# Altium schematic symbol library shm_schem_lib.SchLib: 49 symbols (part 1 of 2)
Pins are listed as number, name and electrical type; pins without a type are passive.

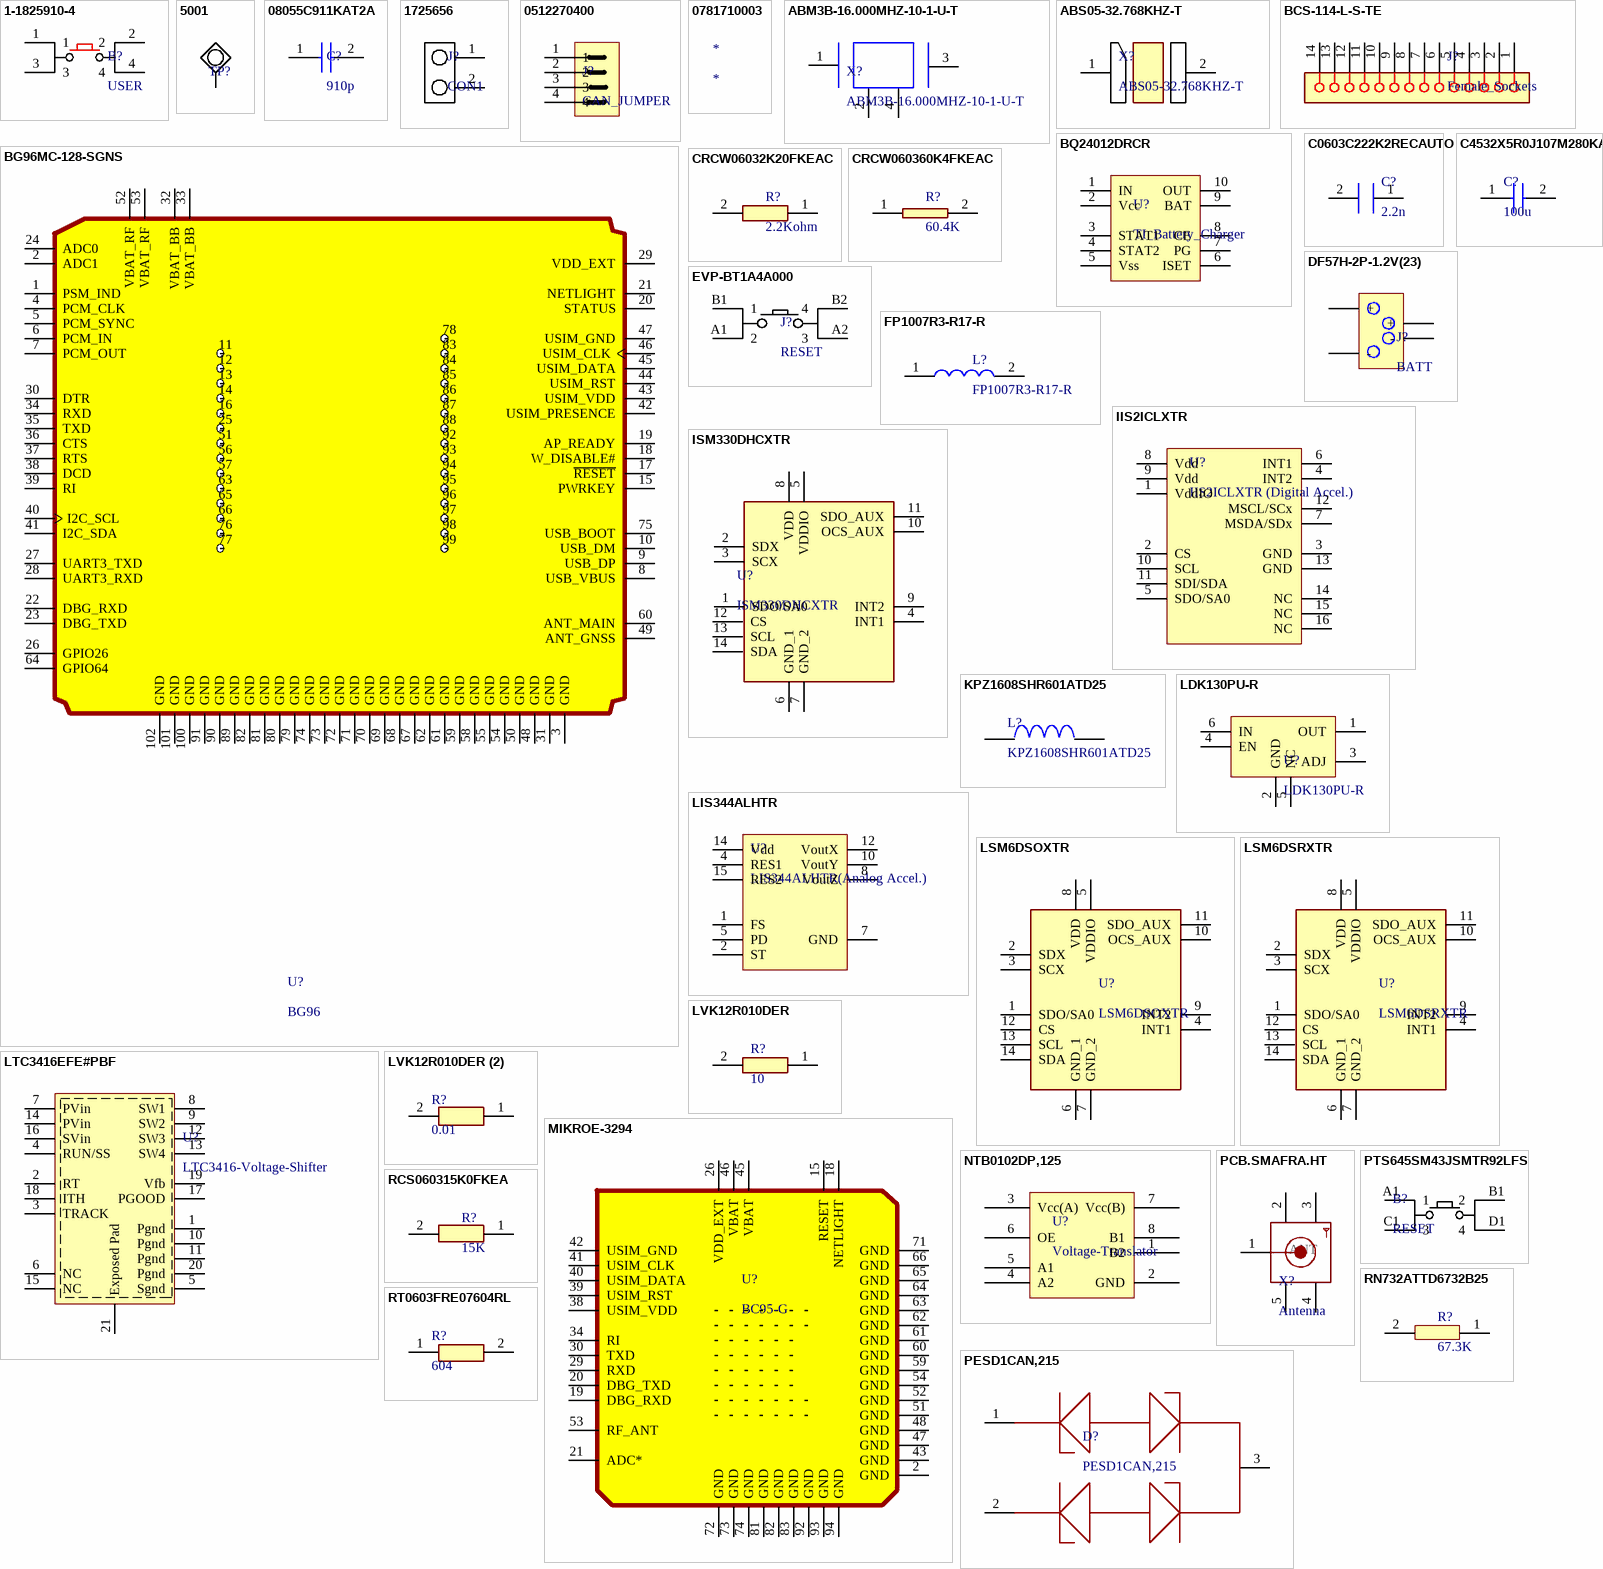
[diagram p0: symbols 1-1825910-4 to RT0603FRE07604RL]

## 1-1825910-4
designator B?, comment USER
Switch Tactile OFF (ON) SPST Round Button PC Pins 0.05A 24VDC 100000Cycle 1.56N Thru-Hole; Manufacturer: TE Connectivity; Manufacturer Part Number: 1-1825910-4; Supplier 1: RSComponents; Supplier Part Number 1: 4791435; RoHS: Yes; Category: Pushbutton Switches; Stock 1: 10560; RoHS Compliant: Yes
footprint 118259104
pins: 1, 2, 3, 4

## 5001
designator TP?, comment Test Point  (value not drawn)
TEST POINT PC MINI .040D BLACK; Manufacturer: Keystone Electronics; Manufacturer Part Number: 5001; Plating: Silver; Body Material: Bronze; Number of Contacts: 1; Insulation: Insulated; Inside Diameter: 1.27mm; Outside Diameter: 2.54mm; Hole Diameter: 1.6mm; Supplier 1: Digi-Key; Supplier Part Number 1: 36-5001-ND; RoHS: Yes; Category: Test Probes, Leads and Clips; Stock 1: 647250; Mount: Through Hole; Contact Material: Bronze; Contact Plating: Silver,Tin; Color: Black; Material: Nylon,Bronze,Silver; Housing Color: Black; Insulation Material: Nylon; Package Quantity: 100; Packaging: Bulk; Termination: Through Hole; Series: THM; Number of Ports: 1; Orientation: Straight; Diameter: 2.54mm; Length: 7.62mm; Height: 0.3inch; RoHS Compliant: Yes; REACH SVHC: No SVHC; Lead Free: Lead Free; Flammability Rating: UL94 V-0; ComponentLink1URL: https://datasheet.ciiva.com/27052/1581986-27052611.pdf?src-supplier=Jameco; ComponentLink1Description: https://datasheet.ciiva.com/27052/1581986-27052611.pdf?src-supplier=Jameco; ComponentLink2URL: https://datasheet.ciiva.com/11836/0900766b8009b7c7-11836045.pdf?src-supplier=RSComponents; ComponentLink2Description: https://datasheet.ciiva.com/11836/0900766b8009b7c7-11836045.pdf?src-supplier=RSComponents; ComponentLink3URL: https://datasheet.ciiva.com/16318/m60-2p60-16318423.pdf?src-supplier=Future+Electronics; ComponentLink3Description: https://datasheet.ciiva.com/16318/m60-2p60-16318423.pdf?src-supplier=Future+Electronics; ComponentLink4URL: https://datasheet.ciiva.com/22631/1703983-22631100.pdf?src-supplier=Element14; ComponentLink4Description: https://datasheet.ciiva.com/22631/1703983-22631100.pdf?src-supplier=Element14
footprint KEYSTONE_5001
pins: 1

## 08055C911KAT2A
designator C?, comment 910p
Cap Ceramic 910pF 50V X7R 10% SMD 0805 125°C T/R; Manufacturer: Kyocera AVX; Manufacturer Part Number: 08055C911KAT2A; Supplier 1: Mouser; Supplier Part Number 1: 581-08055C911KAT2A; RoHS: Yes; Category: Ceramic Capacitors; Stock 1: 8767; Mount: Surface Mount; Case/Package: 0805; Number of Pins: 2; Case Code (Metric): 2012; Case Code (Imperial): 0805; Min Operating Temperature: -55°C; Max Operating Temperature: 125°C; Package Quantity: 12000; Capacitance: 910pF; Voltage Rating: 50V; Tolerance: 10%; Packaging: Tape and Reel; Termination: SMD/SMT; Voltage Rating (DC): 50V; Dielectric: X7R; Length: 0.079inch; Width: 0.049inch; Thickness: 0.037inch; Depth: 1.25mm; ComponentLink1URL: https://datasheet.ciiva.com/204/cx7r-204753.pdf?src-supplier=Digi-Key; ComponentLink1Description: https://datasheet.ciiva.com/204/cx7r-204753.pdf?src-supplier=Digi-Key; ComponentLink2URL: https://datasheet.ciiva.com/13190/cx7r-13190460.pdf?src-supplier=Mouser; ComponentLink2Description: https://datasheet.ciiva.com/13190/cx7r-13190460.pdf?src-supplier=Mouser
pins: 1 18, 2 19

## 1725656
designator J?, comment CON1
间距2.54mm 2pin 6A 160V  螺钉式 直插 配线26-20AWG(0.14-0.5)mm²; Manufacturer: Phoenix Contact; Manufacturer Part Number: 1725656; Number of Poles: 2; Voltage Rating: 125V; Max Supply Voltage: 63V; Number of Levels: 1; Connector Type: Screw,PCB,Terminal Block; Wire Gauge (Max): 26AWG; Wire Gauge (Min): 20AWG; Pitch: 2.54mm; Stripping Length: 4.5mm; Approvals: UL,CSA,cULus,EAC; Supplier 1: RSComponents; Supplier Part Number 1: 2204260; RoHS: Yes; Category: Terminal Blocks; Stock 1: 7470; Mount: Through Hole; Number of Pins: 2; Color: Green; Weight: 0.022575oz; Housing Color: Green; Housing Material: Polyamide; Insulation Material: Nylon; Contact Material: Tin; Package Quantity: 50; Packaging: Bulk; Max Current Rating: 6A; Number of Rows: 1; Current Rating: 6A; Number of Positions Per Level: 2; Current: 6A; Voltage: 125V; Termination: Solder; Number of Positions: 2; Number of Contacts: 2; Number of Circuits: 2; Orientation: Straight; Series: MPT; Length: 5.54mm; Width: 12mm; Height: 6.2mm; Wire/Cable Gauge: 26AWG; Depth: 6.2mm; Radiation Hardening: No; REACH SVHC: No SVHC; Lead Free: Lead Free; Flammability Rating: UL94 V-0; RoHS Compliant: Yes; ComponentLink1URL: https://datasheet.ciiva.com/16071/1725656-16071846.pdf?src-supplier=Onlinecomponents.com; ComponentLink1Description: https://datasheet.ciiva.com/16071/1725656-16071846.pdf?src-supplier=Onlinecomponents.com; ComponentLink2URL: https://datasheet.ciiva.com/15169/getdatasheetpartid-199323-15169849.pdf?src-supplier=Verical; ComponentLink2Description: https://datasheet.ciiva.com/15169/getdatasheetpartid-199323-15169849.pdf?src-supplier=Verical; ComponentLink3URL: https://datasheet.ciiva.com/823/1725656-823793.pdf?src-supplier=Digi-Key; ComponentLink3Description: https://datasheet.ciiva.com/823/1725656-823793.pdf?src-supplier=Digi-Key; ComponentLink4URL: https://datasheet.ciiva.com/1120/319957-1120510.pdf?src-supplier=Farnell; ComponentLink4Description: https://datasheet.ciiva.com/1120/319957-1120510.pdf?src-supplier=Farnell; ComponentLink5URL: https://datasheet.ciiva.com/26340/788052-da-01-en-100ntklemme-1725656-250-st-26340907.pdf?src-supplier=Conrad; ComponentLink5Description: https://datasheet.ciiva.com/26340/788052-da-01-en-100ntklemme-1725656-250-st-26340907.pdf?src-supplier=Conrad
footprint 1725656
pins: 1, 2

## 0512270400
designator J?, comment CAN_JUMPER
2.00mm Pitch MicroTPA Wire-to-Wire Plug Housing, Positive Lock, 4 Circuits, Natural; Manufacturer: Molex; Manufacturer Part Number: 0512270400; Number of Positions: 4; Pitch: 2mm; Supplier 1: Digi-Key; Supplier Part Number 1: WM12240-ND; RoHS: Yes; Category: Headers and Wire Housings; Stock 1: 30068; Mount: Free Hanging; Housing Material: Polybutylene; Color: Natural; Housing Color: Natural; Min Operating Temperature: -25°C; Max Operating Temperature: 85°C; Packaging: Bulk; Number of Rows: 1; Package Quantity: 1000; Termination: Crimp; Orientation: Straight; Series: 51227; Fastening Type: Latch; Connector Type: Plug; Contact Type: Male Pin; Length: 10.4mm; Depth: 17.6mm; RoHS Compliant: Yes; ComponentLink1URL: https://datasheet.ciiva.com/2942/512270200-sd-2942889.pdf?src-supplier=Digi-Key; ComponentLink1Description: https://datasheet.ciiva.com/2942/512270200-sd-2942889.pdf?src-supplier=Digi-Key; ComponentLink2URL: https://datasheet.ciiva.com/10402/0512270400-crimp-housings-10402140.pdf?src-supplier=Avnet; ComponentLink2Description: https://datasheet.ciiva.com/10402/0512270400-crimp-housings-10402140.pdf?src-supplier=Avnet
pins: 1, 2, 3, 4

## 0781710003
designator *
Pico-EZmate Wire-to-Board Header Vertical Housing Height 1.55mm with Side Friction Locks 3 Circuits; Manufacturer: Molex; Manufacturer Part Number: 0781710003; Contact Resistance: 20mR; Number of Positions: 3; Max Voltage Rating (AC): 50V; Connector Type: Plug; Pitch: 0.047inch; Supplier 1: RSComponents; Supplier Part Number 1: 7000824; RoHS: Yes; Category: Headers and Wire Housings; Stock 1: 430; Mount: Surface Mount; Contact Plating: Gold; Contact Material: Copper Alloy; Housing Color: Black; Housing Material: Polymer; Color: Black; Min Operating Temperature: -25°C; Max Operating Temperature: 85°C; Number of Rows: 1; Packaging: Tape and Reel; Termination: Solder; Number of Contacts: 3; Max Voltage Rating (DC): 50V; Orientation: Straight; Series: Pico-EZmate™ 78171; Fastening Type: Friction; Contact Type: Tab; Length: 5.4mm; Depth: 4.5mm; RoHS Compliant: Yes; ComponentLink1URL: https://datasheet.ciiva.com/738/781710004-sd-738385.pdf?src-supplier=Digi-Key; ComponentLink1Description: https://datasheet.ciiva.com/738/781710004-sd-738385.pdf?src-supplier=Digi-Key; ComponentLink2URL: https://datasheet.ciiva.com/740/781710003-sd-740737.pdf?src-supplier=Digi-Key; ComponentLink2Description: https://datasheet.ciiva.com/740/781710003-sd-740737.pdf?src-supplier=Digi-Key; ComponentLink3URL: https://datasheet.ciiva.com/740/781710003-sd-740739.pdf?src-supplier=Digi-Key; ComponentLink3Description: https://datasheet.ciiva.com/740/781710003-sd-740739.pdf?src-supplier=Digi-Key

## ABM3B-16.000MHZ-10-1-U-T
designator X?
Crystal, Ceramic, 16.000Mhz, 10Pf, 10Ppm-10+60C, 5 X 3.2 X 1 Rohs Compliant: Yes; Manufacturer: Abracon; Frequency: 16MHz; ESR (Equivalent Series Resistance): 50R; Tolerance: 10ppm; Supplier 1: Digi-Key; Supplier Part Number 1: 300-8206-1-ND; Manufacturer Part Number: ABM3B-16.000MHZ-10-1-U-T; RoHS: Yes; Category: Crystals; Mount: Surface Mount; Case/Package: CSMD; Number of Pins: 4; Min Operating Temperature: -10°C; Max Operating Temperature: 60°C; Load Capacitance: 10pF; Package Quantity: 1000; Packaging: Tape and Reel; Frequency Tolerance: 10ppm; Frequency Stability: 10ppm; Termination: SMD/SMT; Resistor Type: Ceramic; Series Resistance: 50R; Length: 5mm; Width: 3.2mm; Height: 0.043inch; Depth: 3.2mm; REACH SVHC: No SVHC; Lead Free: Lead Free; ComponentLink1URL: https://datasheet.ciiva.com/15116/getdatasheetpartid-724423-15116862.pdf?src-supplier=Verical; ComponentLink1Description: https://datasheet.ciiva.com/15116/getdatasheetpartid-724423-15116862.pdf?src-supplier=Verical; ComponentLink2URL: https://datasheet.ciiva.com/16366/abm3b-16366326.pdf?src-supplier=Future+Electronics; ComponentLink2Description: https://datasheet.ciiva.com/16366/abm3b-16366326.pdf?src-supplier=Future+Electronics; ComponentLink3URL: https://datasheet.ciiva.com/862/abm3b-862456.pdf?src-supplier=Digi-Key; ComponentLink3Description: https://datasheet.ciiva.com/862/abm3b-862456.pdf?src-supplier=Digi-Key; ComponentLink4URL: https://datasheet.ciiva.com/3175/abm3b-3175821.pdf?src-supplier=Avnet; ComponentLink4Description: https://datasheet.ciiva.com/3175/abm3b-3175821.pdf?src-supplier=Avnet; ComponentLink5URL: https://datasheet.ciiva.com/862/abm3b-862455.pdf?src-supplier=Digi-Key; ComponentLink5Description: https://datasheet.ciiva.com/862/abm3b-862455.pdf?src-supplier=Digi-Key; ComponentLink6URL: https://datasheet.ciiva.com/862/abm3b-862457.pdf?src-supplier=Digi-Key; ComponentLink6Description: https://datasheet.ciiva.com/862/abm3b-862457.pdf?src-supplier=Digi-Key
pins: 1, 2, 3, 4

## ABS05-32.768KHZ-T
designator X?
ABRACON - ABS05-32.768KHZ-T - Crystal, 32.768 kHz, SMD, 1.6mm x 1mm, 12.5 pF, 20 ppm, ABS05 Series; Frequency Tolerance: 20ppm; Load Capacitance: 12.5pF; ESR (Equivalent Series Resistance): 90kR; Supplier 1: Digi-Key; Supplier Part Number 1: 535-11899-1-ND; Manufacturer: Abracon; Manufacturer Part Number: ABS05-32.768KHZ-T; RoHS: Yes; Category: Crystals; Stock 1: 333; Mount: Surface Mount; Case/Package: SMD/SMT; Number of Pins: 2; Min Operating Temperature: -40°C; Max Operating Temperature: 85°C; Packaging: Tape and Reel; Package Quantity: 3000; Frequency: 32.768kHz; Tolerance: 20ppm; Termination: SMD/SMT; Series Resistance: 90kR; Series: ABS05; Operating Frequency: 32.768 kHz; Length: 1.6mm; Width: 0.039inch; Height: 0.02inch; Depth: 1mm; Radiation Hardening: No; REACH SVHC: No SVHC; Lead Free: Lead Free; RoHS Compliant: Yes; ComponentLink1URL: https://datasheet.ciiva.com/23810/abs05-23810480.pdf?src-supplier=Newark; ComponentLink1Description: https://datasheet.ciiva.com/23810/abs05-23810480.pdf?src-supplier=Newark; ComponentLink2URL: https://datasheet.ciiva.com/6728/abs05-6728949.pdf?src-supplier=Digi-Key; ComponentLink2Description: https://datasheet.ciiva.com/6728/abs05-6728949.pdf?src-supplier=Digi-Key; ComponentLink3URL: https://datasheet.ciiva.com/6728/abs05-6728950.pdf?src-supplier=Digi-Key; ComponentLink3Description: https://datasheet.ciiva.com/6728/abs05-6728950.pdf?src-supplier=Digi-Key; ComponentLink4URL: https://datasheet.ciiva.com/16411/abs05-16411149.pdf?src-supplier=Future+Electronics; ComponentLink4Description: https://datasheet.ciiva.com/16411/abs05-16411149.pdf?src-supplier=Future+Electronics
footprint ABS0532768KHZT
pins: 1 In, 2 OUT

## BCS-114-L-S-TE
designator J?, comment Female_Sockets
Conn Socket Strip SKT 14 POS 2.54mm Solder ST Top Entry Thru-Hole TIGER CLAW™ Tube; Manufacturer: Samtec; Manufacturer Part Number: BCS-114-L-S-TE; Contact Resistance: 10mR; Max Current Rating: 5.9A; Voltage Rating: 475V; Connector Type: Receptacle; Number of Positions: 14; Supplier 1: RSComponents; Supplier Part Number 1: 7666525; RoHS: Yes; Category: Connectors; Stock 1: 1; Mount: Through Hole; Contact Material: Bronze; Contact Plating: Gold; Color: Black; Housing Color: Black; Housing Material: Polymer; Min Operating Temperature: -55°C; Max Operating Temperature: 125°C; Number of Rows: 1; Packaging: Bulk; Package Quantity: 1; Termination: Solder; Max Voltage Rating (AC): 475V; Number of Contacts: 14; Gender: Receptacle; Orientation: Vertical; Series: Tiger Claw™ BCS; Length: 35.56mm; Pitch: 2.54mm; Depth: 2.54mm; Radiation Hardening: No; REACH SVHC: No SVHC; Lead Free: Lead Free; RoHS Compliant: Yes; ComponentLink1URL: https://datasheet.ciiva.com/25617/0900766b8115c15c-25617469.pdf?src-supplier=RSComponents; ComponentLink1Description: https://datasheet.ciiva.com/25617/0900766b8115c15c-25617469.pdf?src-supplier=RSComponents; ComponentLink2URL: https://datasheet.ciiva.com/413/bcs-1xx-xxx-x-xx-xxx-mkt-413700.pdf?src-supplier=Digi-Key; ComponentLink2Description: https://datasheet.ciiva.com/413/bcs-1xx-xxx-x-xx-xxx-mkt-413700.pdf?src-supplier=Digi-Key; ComponentLink3URL: https://datasheet.ciiva.com/10044/bcs-10044566.pdf?src-supplier=Avnet; ComponentLink3Description: https://datasheet.ciiva.com/10044/bcs-10044566.pdf?src-supplier=Avnet; ComponentLink4URL: https://datasheet.ciiva.com/7997/81213-7997401.pdf?src-supplier=Element14; ComponentLink4Description: https://datasheet.ciiva.com/7997/81213-7997401.pdf?src-supplier=Element14
footprint SAMTEC-BCS-114-X-S-TE
pins: 1, 2, 3, 4, 5, 6, 7, 8, 9, 10, 11, 12, 13, 14

## BG96MC-128-SGNS
designator U?, comment BG96
LTE Cat M1 Module 1900MHz 3.8V 102-Pin LGA Bag; Manufacturer: Quectel; Manufacturer Part Number: BG96MC-128-SGNS; Supplier 1: Mouser; Supplier Part Number 1: 277-BG96MC-128-SGNS
footprint XCVR_BG96
pins: 1 PSM_IND, 2 ADC1, 3 GND, 4 PCM_CLK, 5 PCM_SYNC, 6 PCM_IN, 7 PCM_OUT, 8 USB_VBUS, 9 USB_DP, 10 USB_DM, 11 RESERVED, 12 RESERVED, 13 RESERVED, 14 RESERVED, 15 PWRKEY, 16 RESERVED, 17 ~{RESET}, 18 W_DISABLE#, 19 AP_READY, 20 STATUS, 21 NETLIGHT, 22 DBG_RXD, 23 DBG_TXD, 24 ADC0, 25 RESERVED, 26 GPIO26, 27 UART3_TXD, 28 UART3_RXD, 29 VDD_EXT, 30 DTR, 31 GND, 32 VBAT_BB, 33 VBAT_BB, 34 RXD, 35 TXD, 36 CTS, 37 RTS, 38 DCD, 39 RI, 40 I2C_SCL, 41 I2C_SDA, 42 USIM_PRESENCE, 43 USIM_VDD, 44 USIM_RST, 45 USIM_DATA, 46 USIM_CLK, 47 USIM_GND, 48 GND, 49 ANT_GNSS, 50 GND, 51 RESERVED, 52 VBAT_RF, 53 VBAT_RF, 54 GND, 55 GND, 56 RESERVED, 57 RESERVED, 58 GND, 59 GND, 60 ANT_MAIN, 61 GND, 62 GND, 63 RESERVED, 64 GPIO64, 65 RESERVED, 66 RESERVED, 67 GND, 68 GND, 69 GND, 70 GND, 71 GND, 72 GND, 73 GND, 74 GND, 75 USB_BOOT, 76 RESERVED, 77 RESERVED, 78 RESERVED, 79 GND, 80 GND, 81 GND, 82 GND, 83 RESERVED, 84 RESERVED, 85 RESERVED, 86 RESERVED, 87 RESERVED, 88 RESERVED, 89 GND, 90 GND, 91 GND, 92 RESERVED, 93 RESERVED, 94 RESERVED, 95 RESERVED, 96 RESERVED, 97 RESERVED, 98 RESERVED, 99 RESERVED, 100 GND, 101 GND, 102 GND

## BQ24012DRCR
designator U?, comment TI_Battery_Charger
1-cell, 1-A, linear Li-ion battery charger w/ FET, AC present & charge enable in QFN-12 10-VSON -40 to 85; Manufacturer: Texas Instruments; Manufacturer Part Number: BQ24012DRCR; Output Voltage: 4.2V; Output Current: 1A; Min Supply Voltage: 3V; Max Supply Voltage: 16.5V; Number of Cells: 1; Supplier 1: Digi-Key; Supplier Part Number 1: 296-13715-1-ND; RoHS: Yes; Category: power; Stock 1: 1348; Number of Pins: 10; Weight: 0.000885oz; Contact Plating: Gold; Min Operating Temperature: -40°C; Max Operating Temperature: 125°C; Packaging: Tape and Reel; Package Quantity: 3000; Min Input Voltage: 3V; Max Output Current: 1A; Max Charge Current: 1A; Length: 3mm; Width: 3mm; Height: 0.9mm; Radiation Hardening: No; Lead Free: Lead Free; RoHS Compliant: Yes; REACH SVHC: No SVHC; ComponentLink1URL: https://datasheet.ciiva.com/3213/bq24018-3213937.pdf?src-supplier=Avnet; ComponentLink1Description: https://datasheet.ciiva.com/3213/bq24018-3213937.pdf?src-supplier=Avnet; ComponentLink2URL: https://datasheet.ciiva.com/15114/getdatasheetpartid-256151-15114566.pdf?src-supplier=Verical; ComponentLink2Description: https://datasheet.ciiva.com/15114/getdatasheetpartid-256151-15114566.pdf?src-supplier=Verical; ComponentLink3URL: https://datasheet.ciiva.com/26875/bq24012drcr-26875237.pdf?src-supplier=IIIC; ComponentLink3Description: https://datasheet.ciiva.com/26875/bq24012drcr-26875237.pdf?src-supplier=IIIC; ComponentLink4URL: https://datasheet.ciiva.com/22642/1862453-22642958.pdf?src-supplier=Element14; ComponentLink4Description: https://datasheet.ciiva.com/22642/1862453-22642958.pdf?src-supplier=Element14; ComponentLink5URL: https://datasheet.ciiva.com/1932/bq24014-1932389.pdf?src-supplier=Digi-Key; ComponentLink5Description: https://datasheet.ciiva.com/1932/bq24014-1932389.pdf?src-supplier=Digi-Key; ComponentLink6URL: https://datasheet.ciiva.com/1932/bq24014-1932388.pdf?src-supplier=Digi-Key; ComponentLink6Description: https://datasheet.ciiva.com/1932/bq24014-1932388.pdf?src-supplier=Digi-Key; ComponentLink7URL: https://datasheet.ciiva.com/1932/bq24014-1932390.pdf?src-supplier=Digi-Key; ComponentLink7Description: https://datasheet.ciiva.com/1932/bq24014-1932390.pdf?src-supplier=Digi-Key; ComponentLink8URL: https://datasheet.ciiva.com/26250/bq24012-26250366.pdf?src-supplier=Avnet+Europe; ComponentLink8Description: https://datasheet.ciiva.com/26250/bq24012-26250366.pdf?src-supplier=Avnet+Europe; category: Battery
pins: 1 IN, 2 Vcc, 3 STAT1, 4 STAT2, 5 Vss, 6 ISET, 7 PG, 8 CE, 9 BAT, 10 OUT

## C0603C222K2RECAUTO
designator C?, comment 2.2n
Cap Cer 0603 2.2nF 200V X7R 4K 7" Reel; Manufacturer: KEMET; Manufacturer Part Number: C0603C222K2RECAUTO; Supplier 1: Mouser; Supplier Part Number 1: 80-C0603C222K2REAUTO; RoHS: Yes; Category: Ceramic Capacitors; Stock 1: 16227; RoHS Compliant: Yes
pins: 1, 2 51

## C4532X5R0J107M280KA
designator C?, comment 100u
TDK         C4532X5R0J107M280KA             SMD Multilayer Ceramic Capacitor, 1812 [4532 Metric], 100 F, 6.3 V,  20%, X5R, C Series; Capacitance: 100uF; Voltage Rating: 6.3V; Supplier 1: RSComponents; Supplier Part Number 1: 7416783; Manufacturer: TDK; Manufacturer Part Number: C4532X5R0J107M280KA; RoHS: Yes; Category: Ceramic Capacitors; Stock 1: 4; Mount: Surface Mount; Case/Package: 1812; Number of Pins: 2; Case Code (Metric): 4532; Case Code (Imperial): 1812; Weight: 0.000952oz; Dielectric Material: Ceramic; Min Operating Temperature: -55°C; Max Operating Temperature: 85°C; Tolerance: 20%; Packaging: Tape and Reel; Package Quantity: 1; Voltage Rating (DC): 6.3V; Dielectric: X5R; Termination: SMD/SMT; Series: C; Resistor Type: Ceramic; Voltage: 6.3V; Length: 4.5mm; Width: 0.126inch; Height: 2.8mm; Depth: 3.2mm; Thickness: 0.122inch; Radiation Hardening: No; REACH SVHC: No SVHC; Lead Free: Lead Free; RoHS Compliant: Yes; ComponentLink1URL: https://datasheet.ciiva.com/11788/0900766b80c1bb00-11788289.pdf?src-supplier=RSComponents; ComponentLink1Description: https://datasheet.ciiva.com/11788/0900766b80c1bb00-11788289.pdf?src-supplier=RSComponents; ComponentLink2URL: https://datasheet.ciiva.com/24216/c4532x5r0j107m280ka-265668-24216530.pdf?src-supplier=Mouser; ComponentLink2Description: https://datasheet.ciiva.com/24216/c4532x5r0j107m280ka-265668-24216530.pdf?src-supplier=Mouser; ComponentLink3URL: https://datasheet.ciiva.com/6283/tdkmlcccaprange-6283834.pdf?src-supplier=Digi-Key; ComponentLink3Description: https://datasheet.ciiva.com/6283/tdkmlcccaprange-6283834.pdf?src-supplier=Digi-Key; ComponentLink4URL: https://datasheet.ciiva.com/16397/e412-c-16397098.pdf?src-supplier=Future+Electronics; ComponentLink4Description: https://datasheet.ciiva.com/16397/e412-c-16397098.pdf?src-supplier=Future+Electronics; ComponentLink5URL: https://datasheet.ciiva.com/6283/tdkmlcccaprange-6283837.pdf?src-supplier=Digi-Key; ComponentLink5Description: https://datasheet.ciiva.com/6283/tdkmlcccaprange-6283837.pdf?src-supplier=Digi-Key
pins: 1, 2

## CRCW06032K20FKEAC
designator R?, comment 2.2Kohm
Res Thick Film 0603 2.2K Ohm 1% 1/10W ±100ppm/°C Molded SMD Paper T/R; Manufacturer: Vishay Semiconductors; Manufacturer Part Number: CRCW06032K20FKEAC; Resistance: 2.2kR; Power Rating: 100mW; Supplier 1: Digi-Key; Supplier Part Number 1: 541-4022-1-ND; RoHS: Yes; Category: Chip SMD Resistors; Stock 1: 299; Mount: Surface Mount; Case/Package: Molded; Contact Plating: Tin; Min Operating Temperature: -55°C; Max Operating Temperature: 155°C; Resistor Type: Thick Film; Termination: Wraparound; Tolerance: 1%; Temperature Coefficient: 100ppm/°C; Length: 1.55mm; Lead Free: Lead Free; RoHS Compliant: Yes; ComponentLink1URL: http://www.vishay.com/docs/28773/crcwce3.pdf?src-supplier=Digi-Key; ComponentLink1Description: http://www.vishay.com/docs/28773/crcwce3.pdf?src-supplier=Digi-Key; ComponentLink2URL: https://www.vishay.com/docs/28773/crcwce3.pdf?src-supplier=Digi-Key; ComponentLink2Description: https://www.vishay.com/docs/28773/crcwce3.pdf?src-supplier=Digi-Key; ComponentLink3URL: http://www.vishay.com/docs/20035/dcrcwe3.pdf?src-supplier=Avnet+Asia; ComponentLink3Description: http://www.vishay.com/docs/20035/dcrcwe3.pdf?src-supplier=Avnet+Asia
pins: 1, 2

## CRCW060360K4FKEAC
designator R?, comment 60.4K
Res Thick Film 0603 60.4K Ohm 1% 1/10W ±100ppm/°C Molded SMD Paper T/R; Manufacturer: Vishay; Manufacturer Part Number: CRCW060360K4FKEAC; Power Rating: 100mW; Resistance: 60.4kR; Supplier 1: Digi-Key; Supplier Part Number 1: 541-5506-1-ND; Category: Chip SMD Resistors; Stock 1: 86964; Case/Package: 0603; Tolerance: 1%; Lead Free: Lead Free
pins: 1, 2

## DF57H-2P-1.2V(23)
designator J?, comment BATT
[SnapBee™]Low Profile Swing-Lock Bd.-to-Wire for Power (UL/CSA Certified), 2.5 A, -35 to 85 ℃, RoHS; Manufacturer: Hirose; Manufacturer Part Number: DF57H-2P-1.2V(23); Number of Positions: 2; Voltage Rating: 50V; Connector Type: Blade Pin; Pitch: 0.047inch; Supplier 1: Mouser; Supplier Part Number 1: 798-DF57H2P12V23; RoHS: Yes; Category: Connectors; Stock 1: 1840; Mount: Surface Mount; Color: Natural; Contact Plating: Tin; Contact Material: Brass; Housing Material: Polymer; Termination: Solder; Number of Rows: 1; Packaging: Tape and Reel; Package Quantity: 5000; ComponentLink1URL: https://datasheet.ciiva.com/24241/ed-df57-20140821-464274-24241577.pdf?src-supplier=Mouser; ComponentLink1Description: https://datasheet.ciiva.com/24241/ed-df57-20140821-464274-24241577.pdf?src-supplier=Mouser
footprint BATT
footprint DF57H2P12V23
pins: 1 +, 2 -, MP1 +, MP2 -

## EVP-BT1A4A000
designator J?, comment RESET
Tactile Switch, SPST, 6.5 x 6.0 x 4.3mm, Black, 0.5N, Straight, EVPBT Series; Manufacturer: Panasonic; Manufacturer Part Number: EVP-BT1A4A000; Supplier 1: Digi-Key; Supplier Part Number 1: 10-EVP-BT1A4A000CT-ND; Stock 1: 1823; ComponentLink1URL: https://datasheet.octopart.com/EVP-BT1A4A000-Panasonic-datasheet-150874611.pdf?src-supplier=Allied+Electronics; ComponentLink1Description: https://datasheet.octopart.com/EVP-BT1A4A000-Panasonic-datasheet-150874611.pdf?src-supplier=Allied+Electronics; ComponentLink2URL: https://datasheet.octopart.com/EVP-BT1A4A000-Panasonic-datasheet-106547821.pdf?src-supplier=Future+Electronics; ComponentLink2Description: https://datasheet.octopart.com/EVP-BT1A4A000-Panasonic-datasheet-106547821.pdf?src-supplier=Future+Electronics
footprint EVPBT1A4A000
pins: A1 2, A2 3, B1 1, B2 4

## FP1007R3-R17-R
designator L?
General Purpose Inductor, 0.17uH, 10%, 1 Element, Ferrite-Core, SMD, 4131; Manufacturer: Eaton Bussmann; Current Rating: 61A; Saturation Current: 66A; Shielding: Unshielded; Inductance: 170nH; DC Resistance (DCR): 0.29mR; Test Frequency: 100kHz; Self Resonant Frequency: 2MHz; Supplier 1: Digi-Key; Supplier Part Number 1: 513-1684-1-ND; Manufacturer Part Number: FP1007R3-R17-R; RoHS: Yes; Category: Fixed Inductors; Stock 1: 16517; Mount: Surface Mount; Case/Package: 1007; Core Material: Ferrite; Weight: 0.070548oz; Min Operating Temperature: -40°C; Max Operating Temperature: 125°C; Tolerance: 10%; Packaging: Tape and Reel; Package Quantity: 650; Max DC Current: 61A; Termination: SMD/SMT; Length: 10.2mm; Width: 7.8mm; Height: 7.3mm; Depth: 8mm; Radiation Hardening: No; Military Standard: Not; Lead Free: Lead Free; ComponentLink1URL: https://datasheet.ciiva.com/25630/0900766b8116a2db-25630987.pdf?src-supplier=RSComponents; ComponentLink1Description: https://datasheet.ciiva.com/25630/0900766b8116a2db-25630987.pdf?src-supplier=RSComponents; ComponentLink2URL: https://datasheet.ciiva.com/26858/getdatasheetpartid-711055-26858509.pdf?src-supplier=Verical; ComponentLink2Description: https://datasheet.ciiva.com/26858/getdatasheetpartid-711055-26858509.pdf?src-supplier=Verical; ComponentLink3URL: https://datasheet.ciiva.com/16439/79793630-1b1e-49f8-a6d0-ea9b2be9f2e4-16439083.pdf?src-supplier=Future+Electronics; ComponentLink3Description: https://datasheet.ciiva.com/16439/79793630-1b1e-49f8-a6d0-ea9b2be9f2e4-16439083.pdf?src-supplier=Future+Electronics
pins: 1, 2

## IIS2ICLXTR
designator U?, comment IIS2ICLXTR (Digital Accel.)
High-accuracy, high-resolution, low-power, 2- axis digital inclinometer; Manufacturer: STMicroelectronics; Supplier 1: Digi-Key; Supplier Part Number 1: 497-IIS2ICLXCT-ND; Manufacturer Part Number: IIS2ICLXTR; RoHS: Yes; Category: Accelerometers; Stock 1: 25
pins: 1 VddIO, 2 CS, 3 GND, 4 INT2, 5 SDO/SA0, 6 INT1, 7 MSDA/SDx, 8 Vdd, 9 Vdd, 10 SCL, 11 SDI/SDA, 12 MSCL/SCx "Two modes of device", 13 GND, 14 NC, 15 NC, 16 NC

## ISM330DHCXTR
designator U?
iNEMO inertial Sensor include 3D accelerometer & 3D gyroscope; LGA-14L package; Manufacturer: STMicroelectronics; Supplier 1: Digi-Key; Supplier Part Number 1: 497-19784-1-ND; Manufacturer Part Number: ISM330DHCXTR; RoHS: Yes; Category: Inertial Measurement Units (IMUs); Stock 1: 9794
footprint LGA-14(2.5X3X0.86)
pins: 1 SDO/SA0, 2 SDX, 3 SCX, 4 INT1, 5 VDDIO, 6 GND_1, 7 GND_2, 8 VDD, 9 INT2, 10 OCS_AUX, 11 SDO_AUX, 12 CS, 13 SCL, 14 SDA

## KPZ1608SHR601ATD25
designator L?
Ferrite Beads Chip 600Ohm 25% 100MHz 1A 0.15Ohm DCR 0603 Automotive T/R; Manufacturer: TDK; Number of Lines: 1; DC Resistance (DCR): 150mR; Supplier 1: Mouser; Supplier Part Number 1: 810-KPZ1608SHR601ATD; Manufacturer Part Number: KPZ1608SHR601ATD25; RoHS: Yes; Category: Ferrite Beads and Chips; Stock 1: 1036; Mount: Surface Mount; Case/Package: 0603; Case Code (Imperial): 0603; Case Code (Metric): 1608; Min Operating Temperature: -55°C; Max Operating Temperature: 150°C; Features: Soft Termination; Packaging: Cut Tape; Max Current Rating: 1A; Ratings: AEC-Q200; RoHS Compliant: Yes; ComponentLink1URL: https://product.tdk.com/info/en/catalog/datasheets/beads_automotive_power_kpz1608-hr_en.pdf?src-supplier=Digi-Key; ComponentLink1Description: https://product.tdk.com/info/en/catalog/datasheets/beads_automotive_power_kpz1608-hr_en.pdf?src-supplier=Digi-Key
pins: 1 1 , 2

## LDK130PU-R
designator U?
Adjustable Positive LDO Regulator, 0.8V Min, 5.1V Max, 0.4V Dropout, PDSO6; Manufacturer: STMicroelectronics; Number of Outputs: 1; Min Input Voltage: 1.9V; Output Current: 300mA; Max Input Voltage: 5.5V; Dropout Voltage: 200mV; Output Voltage: 5.3V; Quiescent Current: 60uA; Min Output Voltage: 800mV; Accuracy: 2%; Operating Supply Current: 70uA; Power Supply Rejection Ratio (PSRR): 55dB; Supplier 1: Mouser; Supplier Part Number 1: 511-LDK130PU-R; Manufacturer Part Number: LDK130PU-R; RoHS: Yes; Category: Voltage Regulators - Linear; Stock 1: 232; Mount: Surface Mount; Case/Package: DFN; Number of Pins: 6; Min Operating Temperature: -40°C; Max Operating Temperature: 125°C; Packaging: Tape and Reel; Max Output Current: 300mA; Package Quantity: 3000; Number of Regulators: 1; Polarity: Positive; Output Voltage Accuracy: 2%; Tolerance: 2%; Output Type: Adjustable; Length: 1.3mm; Width: 1.2mm; Height: 0.45mm; Radiation Hardening: No; REACH SVHC: No SVHC; Lead Free: Lead Free; RoHS Compliant: Yes; ComponentLink1URL: https://datasheet.ciiva.com/30007/dm00076097-30007047.pdf?src-supplier=Avnet; ComponentLink1Description: https://datasheet.ciiva.com/30007/dm00076097-30007047.pdf?src-supplier=Avnet; ComponentLink2URL: https://datasheet.ciiva.com/29568/dm00076097-29568344.pdf?src-supplier=Digi-Key; ComponentLink2Description: https://datasheet.ciiva.com/29568/dm00076097-29568344.pdf?src-supplier=Digi-Key; ComponentLink3URL: https://datasheet.ciiva.com/29568/dm00076097-29568345.pdf?src-supplier=Digi-Key; ComponentLink3Description: https://datasheet.ciiva.com/29568/dm00076097-29568345.pdf?src-supplier=Digi-Key; ComponentLink4URL: https://datasheet.ciiva.com/29568/dm00076097-29568346.pdf?src-supplier=Digi-Key; ComponentLink4Description: https://datasheet.ciiva.com/29568/dm00076097-29568346.pdf?src-supplier=Digi-Key
footprint LDK130PU18R
pins: 1 OUT, 2 GND, 3 ADJ, 4  EN, 5 NC, 6 IN

## LIS344ALHTR
designator U?, comment LIS344ALHTR(Analog Accel.)
3-axis analog accelerometer, ±2 g / ±6 g user selectable full-scale, ultra compact, low power; Manufacturer: STMicroelectronics; Max Supply Voltage: 3.6V; Min Supply Voltage: 2.4V; Nominal Supply Current: 680uA; Bandwidth: 2kHz; Sensitivity: 15000mV/g; Axis: X, Y, Z; Supplier 1: Digi-Key; Manufacturer Part Number: LIS344ALHTR; RoHS: Yes; Stock 1: 153; Mount: Surface Mount; Case/Package: LGA; Number of Pins: 16; Contact Plating: Gold; Min Operating Temperature: -40°C; Max Operating Temperature: 85°C; Packaging: Tape and Reel; Package Quantity: 1; Output Type: Analog; Length: 4.15mm; Width: 4.15mm; Height: 1.33mm; Radiation Hardening: No; Lead Free: Lead Free; ComponentLink1URL: https://datasheet.ciiva.com/12174/cd00182781-85334-12174772.pdf?src-supplier=Mouser; ComponentLink1Description: https://datasheet.ciiva.com/12174/cd00182781-85334-12174772.pdf?src-supplier=Mouser; ComponentLink2URL: https://datasheet.ciiva.com/26928/lis344alhtr-26928753.pdf?src-supplier=IIIC; ComponentLink2Description: https://datasheet.ciiva.com/26928/lis344alhtr-26928753.pdf?src-supplier=IIIC; ComponentLink3URL: https://datasheet.ciiva.com/2809/cd00182781-2809847.pdf?src-supplier=Digi-Key; ComponentLink3Description: https://datasheet.ciiva.com/2809/cd00182781-2809847.pdf?src-supplier=Digi-Key; ComponentLink4URL: https://datasheet.ciiva.com/16372/cd00182781-16372423.pdf?src-supplier=Future+Electronics; ComponentLink4Description: https://datasheet.ciiva.com/16372/cd00182781-16372423.pdf?src-supplier=Future+Electronics; ComponentLink5URL: https://datasheet.ciiva.com/2809/cd00182781-2809848.pdf?src-supplier=Digi-Key; ComponentLink5Description: https://datasheet.ciiva.com/2809/cd00182781-2809848.pdf?src-supplier=Digi-Key; ComponentLink6URL: https://datasheet.ciiva.com/2809/cd00182781-2809849.pdf?src-supplier=Digi-Key; ComponentLink6Description: https://datasheet.ciiva.com/2809/cd00182781-2809849.pdf?src-supplier=Digi-Key; ComponentLink7URL: https://datasheet.ciiva.com/16638/cd00182781-16638187.pdf?src-supplier=Avnet+Europe; ComponentLink7Description: https://datasheet.ciiva.com/16638/cd00182781-16638187.pdf?src-supplier=Avnet+Europe; Supplier Part Number 1: 497-6345-1-ND; Category: Sensors
footprint LGA16R65P4X4_400X400X160
pins: 1 FS, 2 ST, 4 RES1, 5 PD, 7 GND, 8 VoutZ, 10 VoutY, 12 VoutX, 14 Vdd, 15 RES2

## LSM6DSOXTR
designator U?
3D Accelerometer and 3D Gyroscope Module 3-Axis Digital ±2/±4/±8/±16 g 14-Pin LGA T/R; Manufacturer: STMicroelectronics; Supplier 1: Digi-Key; Supplier Part Number 1: 497-18367-1-ND; Manufacturer Part Number: LSM6DSOXTR; RoHS: Yes; Category: Inertial Measurement Units (IMUs); ComponentLink1URL: http://www.farnell.com/datasheets/2736724.pdf?src-supplier=Farnell; ComponentLink1Description: http://www.farnell.com/datasheets/2736724.pdf?src-supplier=Farnell; ComponentLink2URL: http://www.farnell.com/datasheets/2736724.pdf?src-supplier=Newark; ComponentLink2Description: http://www.farnell.com/datasheets/2736724.pdf?src-supplier=Newark; ComponentLink3URL: http://www.farnell.com/datasheets/2736724.pdf?src-supplier=Element14; ComponentLink3Description: http://www.farnell.com/datasheets/2736724.pdf?src-supplier=Element14
footprint LGA-14_1
pins: 1 SDO/SA0, 2 SDX, 3 SCX, 4 INT1, 5 VDDIO, 6 GND_1, 7 GND_2, 8 VDD, 9 INT2, 10 OCS_AUX, 11 SDO_AUX, 12 CS, 13 SCL, 14 SDA

## LSM6DSRXTR
designator U?
3D Accelerometer and 3D Gyroscope Sensor Digital Output 1.8V 14-Pin LGA T/R; Manufacturer: STMicroelectronics; Supplier 1: Digi-Key; Supplier Part Number 1: 497-LSM6DSRXDKR-ND; Manufacturer Part Number: LSM6DSRXTR; RoHS: Yes; Category: Inertial Measurement Units (IMUs)
footprint LGA-14(2.5X3X0.86)
pins: 1 SDO/SA0, 2 SDX, 3 SCX, 4 INT1, 5 VDDIO, 6 GND_1, 7 GND_2, 8 VDD, 9 INT2, 10 OCS_AUX, 11 SDO_AUX, 12 CS, 13 SCL, 14 SDA

## LTC3416EFE#PBF
designator U?, comment LTC3416-Voltage-Shifter
Conv DC-DC 2.25V to 5.5V Synchronous Step Down Single-Out 0.8V to 5V 4A Automotive 20-Pin TSSOP EP; Manufacturer: Analog Devices; Manufacturer Part Number: LTC3416EFE#PBF; Efficiency: 95%; Number of Outputs: 1; Switching Frequency: 4MHz; Synchronous Rectifier: Yes; Min Output Voltage: 800mV; Output Type: Adjustable; Output Configuration: Positive; Supplier 1: Digi-Key; Supplier Part Number 1: LTC3416EFE#PBF-ND; Category: Power; Stock 1: 1587; Mount: Surface Mount; Case/Package: TSSOP; Number of Pins: 20; Min Operating Temperature: -40°C; Max Operating Temperature: 85°C; Min Input Voltage: 2.25V; Max Output Current: 4A; Max Input Voltage: 5.5V; Output Voltage: 5V; Output Current: 4A; Package Quantity: 74; Packaging: Rail/Tube; Max Output Voltage: 5V; Series: -; Length: 6.6mm; Width: 4.5mm; Height: 1.05mm; Radiation Hardening: No; REACH SVHC: No SVHC; Lead Free: Lead Free; RoHS Compliant: Yes; ComponentLink1URL: https://datasheet.ciiva.com/2025/2995-2025099.pdf?src-supplier=Digi-Key; ComponentLink1Description: https://datasheet.ciiva.com/2025/2995-2025099.pdf?src-supplier=Digi-Key; ComponentLink2URL: https://datasheet.ciiva.com/15112/getdatasheetpartid-82273-15112776.pdf?src-supplier=Verical; ComponentLink2Description: https://datasheet.ciiva.com/15112/getdatasheetpartid-82273-15112776.pdf?src-supplier=Verical; ComponentLink3URL: https://datasheet.ciiva.com/26898/ltc3416efe-pbf-26898981.pdf?src-supplier=IIIC; ComponentLink3Description: https://datasheet.ciiva.com/26898/ltc3416efe-pbf-26898981.pdf?src-supplier=IIIC; ComponentLink4URL: https://datasheet.ciiva.com/7312/1727688-7312092.pdf?src-supplier=Newark; ComponentLink4Description: https://datasheet.ciiva.com/7312/1727688-7312092.pdf?src-supplier=Newark; ComponentLink5URL: https://datasheet.octopart.com/LTC3416EFE%23PBF-Analog-Devices-datasheet-17021874.pdf?src-supplier=Linear+Technology; ComponentLink5Description: https://datasheet.octopart.com/LTC3416EFE%23PBF-Analog-Devices-datasheet-17021874.pdf?src-supplier=Linear+Technology; ComponentLink6URL: https://sigma.octopart.com/57693649/technical_drawing/Linear-Technology-LTC3416EFE%23PBF.pdf?src-supplier=Linear+Technology; ComponentLink6Description: https://sigma.octopart.com/57693649/technical_drawing/Linear-Technology-LTC3416EFE%23PBF.pdf?src-supplier=Linear+Technology; ComponentLink7URL: https://datasheet.octopart.com/LTC3416EFE%23PBF-Linear-Technology-datasheet-604372.pdf?src-supplier=Element14; ComponentLink7Description: https://datasheet.octopart.com/LTC3416EFE%23PBF-Linear-Technology-datasheet-604372.pdf?src-supplier=Element14; ComponentLink8URL: https://datasheet.octopart.com/LTC3416EFE%23PBF-Linear-Technology-datasheet-14167519.pdf?src-supplier=IIIC; ComponentLink8Description: https://datasheet.octopart.com/LTC3416EFE%23PBF-Linear-Technology-datasheet-14167519.pdf?src-supplier=IIIC
pins: 1 Pgnd, 2 RT , 3 TRACK, 4 RUN/SS, 5 Sgnd, 6 NC, 7 PVin, 8 SW1, 9 SW2, 10 Pgnd, 11 Pgnd, 12 SW3, 13 SW4, 14 PVin, 15 NC, 16 SVin, 17 PGOOD, 18 ITH, 19 Vfb, 20 Pgnd, 21 Exposed Pad

## LVK12R010DER
designator R?, comment 10
Res Metal Alloy 1206 0.01 Ohm 0.5% 0.5W(1/2W) ±50ppm/C Pad SMD T/R; Manufacturer: Ohmite; Manufacturer Part Number: LVK12R010DER; Resistance: 10mR; Power Rating: 500mW; Temperature Coefficient: 50ppm/°C; Supplier 1: Digi-Key; Supplier Part Number 1: LVK12R010DERCT-ND; RoHS: Yes; Category: Chip SMD Resistors; Stock 1: 154906; Mount: Surface Mount; Case/Package: 1206; Case Code (Imperial): 1206; Case Code (Metric): 3216; Weight: 0.000571oz; Min Operating Temperature: -40°C; Max Operating Temperature: 125°C; Tolerance: 0.5%; Packaging: Tape and Reel; Package Quantity: 1; Resistor Type: Thick Film,Metal Film,Thin Film; Termination: SMD/SMT; Number of Terminations: 4; Max Power Dissipation: 500mW; Features: Moisture Resistant; Length: 3.2mm; Width: 1.6mm; Height: 0.5mm; Depth: 1.6mm; REACH SVHC: Unknown; RoHS Compliant: Yes; ComponentLink1URL: https://datasheet.ciiva.com/7937/575641-7937848.pdf?src-supplier=Element14; ComponentLink1Description: https://datasheet.ciiva.com/7937/575641-7937848.pdf?src-supplier=Element14; ComponentLink2URL: https://datasheet.ciiva.com/7937/575641-7937847.pdf?src-supplier=Element14; ComponentLink2Description: https://datasheet.ciiva.com/7937/575641-7937847.pdf?src-supplier=Element14; ComponentLink3URL: https://datasheet.ciiva.com/7938/lvk-7938167.pdf?src-supplier=Element14; ComponentLink3Description: https://datasheet.ciiva.com/7938/lvk-7938167.pdf?src-supplier=Element14; ComponentLink4URL: https://datasheet.ciiva.com/5469/lvk-5469173.pdf?src-supplier=Mouser; ComponentLink4Description: https://datasheet.ciiva.com/5469/lvk-5469173.pdf?src-supplier=Mouser; ComponentLink5URL: https://datasheet.ciiva.com/16756/70024650-16756989.pdf?src-supplier=Allied+Electronics; ComponentLink5Description: https://datasheet.ciiva.com/16756/70024650-16756989.pdf?src-supplier=Allied+Electronics; ComponentLink6URL: https://datasheet.ciiva.com/15865/40lvk-15865303.pdf?src-supplier=Onlinecomponents.com; ComponentLink6Description: https://datasheet.ciiva.com/15865/40lvk-15865303.pdf?src-supplier=Onlinecomponents.com; ComponentLink7URL: https://datasheet.ciiva.com/2482/res-lvk-2482375.pdf?src-supplier=Digi-Key; ComponentLink7Description: https://datasheet.ciiva.com/2482/res-lvk-2482375.pdf?src-supplier=Digi-Key; ComponentLink8URL: https://datasheet.ciiva.com/2482/res-lvk-2482376.pdf?src-supplier=Digi-Key; ComponentLink8Description: https://datasheet.ciiva.com/2482/res-lvk-2482376.pdf?src-supplier=Digi-Key; ComponentLink9URL: https://datasheet.ciiva.com/2482/res-lvk-2482374.pdf?src-supplier=Digi-Key; ComponentLink9Description: https://datasheet.ciiva.com/2482/res-lvk-2482374.pdf?src-supplier=Digi-Key
pins: 1, 2

## LVK12R010DER (2)
designator R?, comment 0.01
Res Metal Alloy 1206 0.01 Ohm 0.5% 0.5W(1/2W) ±50ppm/C Pad SMD T/R; Manufacturer: Ohmite; Manufacturer Part Number: LVK12R010DER; Resistance: 10mR; Power Rating: 500mW; Temperature Coefficient: 50ppm/°C; Supplier 1: Digi-Key; Supplier Part Number 1: LVK12R010DERCT-ND; RoHS: Yes; Category: Chip SMD Resistors; Stock 1: 125609; Mount: Surface Mount; Case/Package: 1206; Case Code (Imperial): 1206; Case Code (Metric): 3216; Weight: 0.000571oz; Min Operating Temperature: -40°C; Max Operating Temperature: 125°C; Tolerance: 0.5%; Packaging: Tape and Reel; Package Quantity: 1; Resistor Type: Thick Film,Metal Film,Thin Film; Termination: SMD/SMT; Number of Terminations: 4; Max Power Dissipation: 500mW; Features: Moisture Resistant; Length: 3.2mm; Width: 1.6mm; Height: 0.5mm; Depth: 1.6mm; REACH SVHC: Unknown; RoHS Compliant: Yes; ComponentLink1URL: https://datasheet.ciiva.com/7937/575641-7937848.pdf?src-supplier=Element14; ComponentLink1Description: https://datasheet.ciiva.com/7937/575641-7937848.pdf?src-supplier=Element14; ComponentLink2URL: https://datasheet.ciiva.com/7937/575641-7937847.pdf?src-supplier=Element14; ComponentLink2Description: https://datasheet.ciiva.com/7937/575641-7937847.pdf?src-supplier=Element14; ComponentLink3URL: https://datasheet.ciiva.com/7938/lvk-7938167.pdf?src-supplier=Element14; ComponentLink3Description: https://datasheet.ciiva.com/7938/lvk-7938167.pdf?src-supplier=Element14; ComponentLink4URL: https://datasheet.ciiva.com/5469/lvk-5469173.pdf?src-supplier=Mouser; ComponentLink4Description: https://datasheet.ciiva.com/5469/lvk-5469173.pdf?src-supplier=Mouser; ComponentLink5URL: https://datasheet.ciiva.com/16756/70024650-16756989.pdf?src-supplier=Allied+Electronics; ComponentLink5Description: https://datasheet.ciiva.com/16756/70024650-16756989.pdf?src-supplier=Allied+Electronics; ComponentLink6URL: https://datasheet.ciiva.com/15865/40lvk-15865303.pdf?src-supplier=Onlinecomponents.com; ComponentLink6Description: https://datasheet.ciiva.com/15865/40lvk-15865303.pdf?src-supplier=Onlinecomponents.com; ComponentLink7URL: https://datasheet.ciiva.com/2482/res-lvk-2482375.pdf?src-supplier=Digi-Key; ComponentLink7Description: https://datasheet.ciiva.com/2482/res-lvk-2482375.pdf?src-supplier=Digi-Key; ComponentLink8URL: https://datasheet.ciiva.com/2482/res-lvk-2482376.pdf?src-supplier=Digi-Key; ComponentLink8Description: https://datasheet.ciiva.com/2482/res-lvk-2482376.pdf?src-supplier=Digi-Key; ComponentLink9URL: https://datasheet.ciiva.com/2482/res-lvk-2482374.pdf?src-supplier=Digi-Key; ComponentLink9Description: https://datasheet.ciiva.com/2482/res-lvk-2482374.pdf?src-supplier=Digi-Key
pins: 1, 2

## MIKROE-3294
designator U?, comment BC95-G
NB IoT Click BC95 LTE CAT NB1 Module Add-On Board; Manufacturer: mikroElektronika; Supplier 1: RSComponents; Supplier Part Number 1: 1840145; Manufacturer Part Number: MIKROE-3294; RoHS: No; Stock 1: 1
footprint XCVR_BC95GJB02STD
pins: 1 RESERVED, 2 GND, 3 RESERVED, 4 RESERVED, 5 RESERVED, 6 RESERVED, 7 RESERVED, 8 RESERVED, 9 RESERVED, 10 RESERVED, 11 RESERVED, 12 RESERVED, 13 RESERVED, 14 RESERVED, 15 RESET, 16 RESERVED, 17 RESERVED, 18 NETLIGHT, 19 DBG_RXD, 20 DBG_TXD, 21 ADC*, 22 RESERVED, 23 RESERVED, 24 RESERVED, 25 RESERVED, 26 VDD_EXT, 27 RESERVED, 28 RESERVED, 29 RXD, 30 TXD, 31 RESERVED, 32 RESERVED, 33 RESERVED, 34 RI, 35 RESERVED, 36 RESERVED, 37 RESERVED, 38 USIM_VDD, 39 USIM_RST, 40 USIM_DATA, 41 USIM_CLK, 42 USIM_GND, 43 GND, 44 RESERVED, 45 VBAT, 46 VBAT, 47 GND, 48 GND, 49 RESERVED, 50 RESERVED, 51 GND, 52 GND, 53 RF_ANT, 54 GND, 55 RESERVED, 56 RESERVED, 57 RESERVED, 58 RESERVED, 59 GND, 60 GND, 61 GND, 62 GND, 63 GND, 64 GND, 65 GND, 66 GND, 67 RESERVED, 68 RESERVED, 69 RESERVED, 70 RESERVED, 71 GND, 72 GND, 73 GND, 74 GND, 75 RESERVED, 76 RESERVED, 77 RESERVED, 78 RESERVED, 79 RESERVED, 80 RESERVED, 81 GND, 82 GND, 83 GND, 84 RESERVED, 85 RESERVED, 86 RESERVED, 87 RESERVED, 88 RESERVED, 89 RESERVED, 90 RESERVED, 91 RESERVED, 92 GND, 93 GND, 94 GND

## NTB0102DP,125
designator U?, comment Voltage-Translator
Voltage Level Translator 2-CH Bidirectional 8-Pin TSSOP T/R; Manufacturer: NXP Semiconductors; Manufacturer Part Number: NTB0102DP,125; Max Supply Voltage: 5.5V; Min Supply Voltage: 1.65V; Propagation Delay: 5.9ns; Data Rate: 100Mbps; Number of Channels: 2; Max Power Dissipation: 250mW; Nominal Supply Current: 3.5uA; Number of Circuits: 1; Turn-On Delay Time: 4.4ns; High Level Output Current: -20uA; Low Level Output Current: 20uA; Quiescent Current: 40uA; Output Type: 3-STATE; Supplier 1: Digi-Key; Supplier Part Number 1: 568-12310-6-ND; RoHS: Yes; Category: power; Mount: Surface Mount; Case/Package: TSSOP; Number of Pins: 8; Min Operating Temperature: -40°C; Max Operating Temperature: 125°C; Packaging: Tape and Reel; Package Quantity: 3000; Logic Function: Translator; Number of Bits: 2; Channel Type: Bidirectional; Series: -; Supply Current: 3.5uA; RoHS Compliant: Yes; ComponentLink1URL: https://datasheet.ciiva.com/6614/ntb0102-6614983.pdf?src-supplier=Digi-Key; ComponentLink1Description: https://datasheet.ciiva.com/6614/ntb0102-6614983.pdf?src-supplier=Digi-Key
pins: 1 B2, 2 GND, 3 Vcc(A), 4 A2, 5 A1, 6 OE, 7 Vcc(B), 8 B1

## PCB.SMAFRA.HT
designator X?, comment Antenna
CONNSMAJACKR/A50OHMPCB; Manufacturer: Taoglas; Manufacturer Part Number: PCB.SMAFRA.HT; Body Material: Brass; Dielectric Material: PTFE; Body Plating: Gold; Connector Type: SMA,Socket; Max Frequency: 6GHz; Voltage Rating: 500V; Impedance: 50R; Supplier 1: Digi-Key; Supplier Part Number 1: 931-1361-ND; RoHS: Yes; Category: RF / Coaxial Connectors; Stock 1: 9426; Mount: Through Hole,Surface Mount; Case/Package: SMA; Contact Plating: Gold; Contact Material: Brass; Housing Color: Gold; Package Quantity: 500; Packaging: Tray; Termination: Solder; Fastening Type: Threaded; Frequency: 6GHz; Orientation: Right Angle; ComponentLink1URL: http://taoglas.com/images/product_images/original_images/PCB.SMAFRA.HT.pdf?src-supplier=Avnet; ComponentLink1Description: http://taoglas.com/images/product_images/original_images/PCB.SMAFRA.HT.pdf?src-supplier=Avnet; ComponentLink2URL: http://www.taoglas.com/wp-content/uploads/2016/01/PCB.SMAFRA.HT_.pdf?src-supplier=Digi-Key; ComponentLink2Description: http://www.taoglas.com/wp-content/uploads/2016/01/PCB.SMAFRA.HT_.pdf?src-supplier=Digi-Key
footprint PCBSMAFRAHT
pins: 1, 2, 3, 4, 5
text: ANT

## PESD1CAN,215
designator D?
ESD Suppressor Diode TVS Bi-Dir 24V Automotive 3-Pin SOT-23 T/R / TVS DIODE 24VWM 70VC SOT23; Manufacturer: Nexperia; Supplier 1: RSComponents; Supplier Part Number 1: 1242373; Manufacturer Part Number: PESD1CAN,215; RoHS: Yes; Category: ESD and Circuit Protection ICs; Stock 1: 129000; ComponentLink1URL: http://www.farnell.com/datasheets/109497.pdf?src-supplier=Farnell; ComponentLink1Description: http://www.farnell.com/datasheets/109497.pdf?src-supplier=Farnell; ComponentLink2URL: https://assets.nexperia.com/documents/data-sheet/PESD1CAN.pdf?src-supplier=Digi-Key; ComponentLink2Description: https://assets.nexperia.com/documents/data-sheet/PESD1CAN.pdf?src-supplier=Digi-Key; ComponentLink3URL: http://www.farnell.com/datasheets/109497.pdf?src-supplier=Newark; ComponentLink3Description: http://www.farnell.com/datasheets/109497.pdf?src-supplier=Newark
footprint SOT95P230X110-3N
pins: 1, 2, 3

## PTS645SM43JSMTR92LFS
designator B?, comment RESET
Switch Tactile SPST N.O Round Button 12V 50mA 1.57N Solder Surface Mount T/R; Manufacturer: C&K Components; Manufacturer Part Number: PTS645SM43JSMTR92LFS; Supplier 1: Digi-Key; Supplier Part Number 1: 108-PTS645SM43JSMTR92LFSCT-ND; Stock 1: 18999; ComponentLink1URL: https://datasheet.octopart.com/PTS645SM43JSMTR92LFS-C%26K-Components-datasheet-155912617.pdf?src-supplier=Sager+Electronics; ComponentLink1Description: https://datasheet.octopart.com/PTS645SM43JSMTR92LFS-C%26K-Components-datasheet-155912617.pdf?src-supplier=Sager+Electronics; ComponentLink2URL: https://datasheet.octopart.com/PTS645SM43JSMTR92LFS-C%26K-Components-datasheet-67873720.pdf?src-supplier=Sager+Electronics; ComponentLink2Description: https://datasheet.octopart.com/PTS645SM43JSMTR92LFS-C%26K-Components-datasheet-67873720.pdf?src-supplier=Sager+Electronics; ComponentLink3URL: https://datasheet.octopart.com/PTS645SM43JSMTR92LFS-C%26K-Components-datasheet-150821959.pdf?src-supplier=Sager+Electronics; ComponentLink3Description: https://datasheet.octopart.com/PTS645SM43JSMTR92LFS-C%26K-Components-datasheet-150821959.pdf?src-supplier=Sager+Electronics
footprint PTS645SM43JSMTR92LFS
pins: A1 1, B1 2, C1 3, D1 4

## RCS060315K0FKEA
designator R?, comment 15K
Res Thick Film 0603 15K Ohm 1% 0.25W(1/4W) ±100ppm/°C Pad SMD Automotive Medical T/R; Manufacturer: Vishay Dale; Manufacturer Part Number: RCS060315K0FKEA; Max Power Dissipation: 250mW; Resistance: 15kR; Supplier 1: Digi-Key; Supplier Part Number 1: 541-2796-1-ND; RoHS: Yes; Category: Chip SMD Resistors; Stock 1: 3973; Case/Package: 0603; Case Code (Imperial): 0603; Case Code (Metric): 1608; Min Operating Temperature: -55°C; Max Operating Temperature: 155°C; Tolerance: 1%; Temperature Coefficient: 100ppm/°C; Packaging: Tape and Reel; Resistor Type: Thick Film; Number of Terminations: 2; Features: Automotive AEC-Q200; Length: 0.061inch; Width: 0.033inch; Height: 0.02inch; ComponentLink1URL: http://www.vishay.com/docs/20065/rcse3.pdf?src-supplier=Digi-Key; ComponentLink1Description: http://www.vishay.com/docs/20065/rcse3.pdf?src-supplier=Digi-Key
pins: 1, 2

## RN732ATTD6732B25
designator R?, comment 67.3K
Res 67.3K Ohm 0.1% 1/10W 0805; Manufacturer: KOA Speer; Manufacturer Part Number: RN732ATTD6732B25; Supplier 1: Mouser; Supplier Part Number 1: 660-RN732ATTD6732B25; RoHS: Yes; Category: Chip SMD Resistors; Stock 1: 2067; RoHS Compliant: Yes
pins: 1, 2